# Altium integrated library AD Power Mgt Voltage Reference.IntLib: 225 symbols (part 2 of 5)
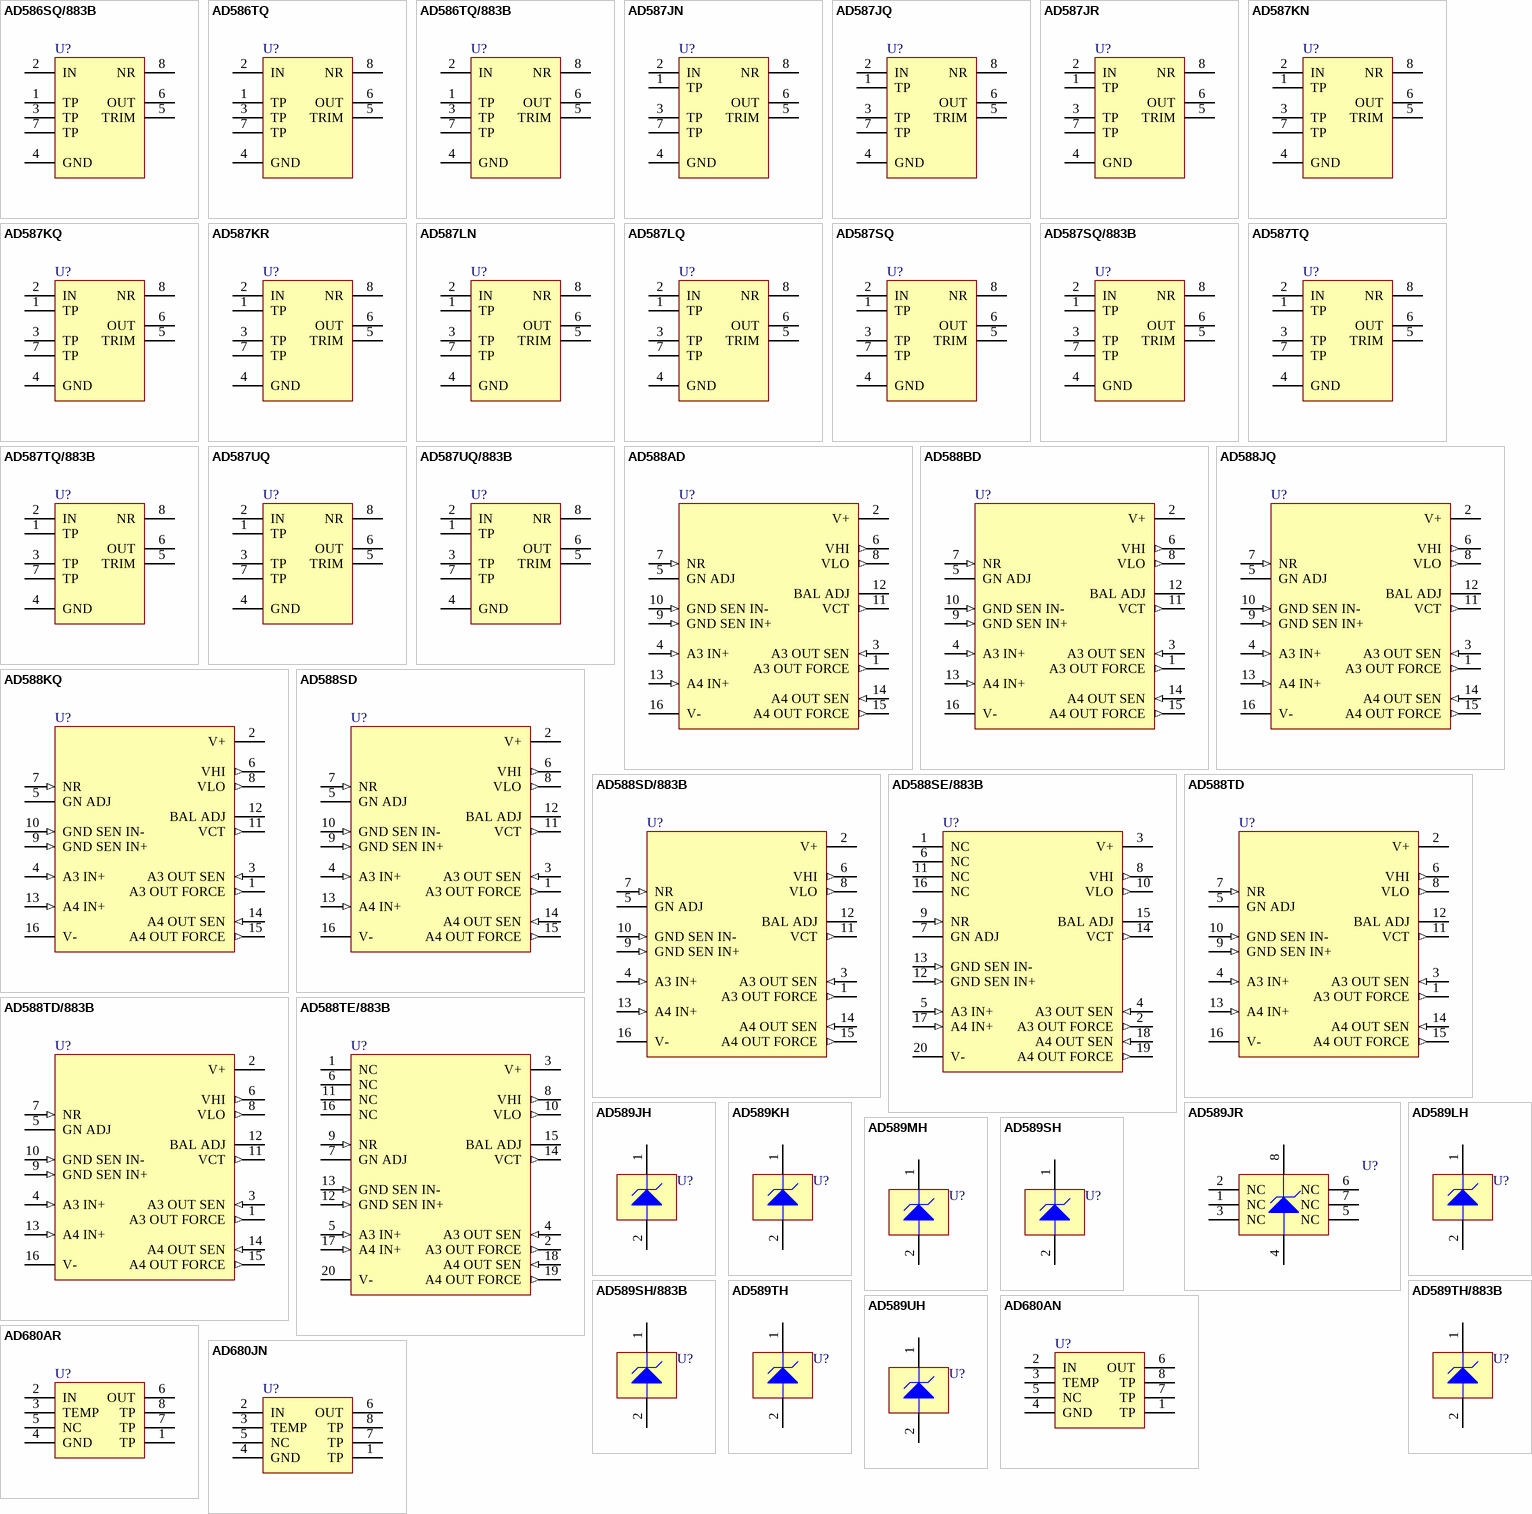
[diagram p6: symbols AD586SQ/883B to AD680JN]

## AD587UQ/883B
designator U?
High-Precision 10 Volt Reference; Note: Pins 1, 3 and 7 are internal test points; make no connection to these points; Published: 8-Jun-2000; LatestRevisionDate: 29-May-2009; LatestRevisionNote: Component Body Added.; DatasheetVersion: REV. C; PackageVersion: 1998; PackageReference: Q-8; Publisher: Altium Limited; PackageDescription: DIP, 8-Pin, Row Spacing 7.62 mm, Pitch 2.54 mm; ComponentLink1Description: Manufacturer Link; ComponentLink1URL: http://www.analog.com/en/prod/0,,769_838_AD587%2C00.html; ComponentLink2Description: Datasheet; ComponentLink2URL: http://www.analog.com/UploadedFiles/Data_Sheets/36724877496502AD587_g.pdf
footprint Q-8 (DIP, 8-Leads, Row Spacing 7.62mm, Pitch 2.54mm, Body 9.91x6.73mm)
3D model Q-8 (DIP, 8-Pin, Row Spacing 7.62 mm, Pitch 2.54 mm)
simulation model AD587U (SUBCKT)
pins: 1 TP, 2 IN (power), 3 TP, 4 GND (power), 5 TRIM, 6 OUT (power), 7 TP, 8 NR

## AD588AD
designator U?
+10V, +5V, ±5V tracking -5V, -10V, High Precision Voltage Reference; Published: 8-Jun-2000; LatestRevisionDate: 29-May-2009; LatestRevisionNote: Component Body Added.; DatasheetVersion: REV. A 1992; PackageReference: D-16; Publisher: Altium Limited; PackageDescription: DIP, 16-Pin, Row Spacing 7.62 mm, Pitch 2.54 mm; ComponentLink1Description: Manufacturer Link; ComponentLink1URL: http://www.analog.com/; ComponentLink2Description: Datasheet; ComponentLink2URL: http://www.analog.com/UploadedFiles/Data_Sheets/33869433321179AD588_d.pdf
footprint D-16 (DIP, 16-Leads, Row Spacing 7.62mm, Pitch 2.54mm, Body 20.07x6.73mm)
3D model D-16 (DIP, 16-Pin, Row Spacing 7.62 mm, Pitch 2.54 mm)
simulation model AD588A (SUBCKT)
pins: 1 A3 OUT FORCE (out), 2 V+ (power), 3 A3 OUT SEN (in), 4 A3 IN+ (in), 5 GN ADJ, 6 VHI (out), 7 NR (in), 8 VLO (out), 9 GND SEN IN+ (in), 10 GND SEN IN- (in), 11 VCT (out), 12 BAL ADJ, 13 A4 IN+ (in), 14 A4 OUT SEN (in), 15 A4 OUT FORCE (out), 16 V- (power)

## AD588BD
designator U?
+10V, +5V, ±5V tracking -5V, -10V, High Precision Voltage Reference; Published: 8-Jun-2000; LatestRevisionDate: 29-May-2009; LatestRevisionNote: Component Body Added.; DatasheetVersion: REV. A 1992; PackageReference: D-16; Publisher: Altium Limited; PackageDescription: DIP, 16-Pin, Row Spacing 7.62 mm, Pitch 2.54 mm; ComponentLink1Description: Manufacturer Link; ComponentLink1URL: http://www.analog.com/; ComponentLink2Description: Datasheet; ComponentLink2URL: http://www.analog.com/UploadedFiles/Data_Sheets/33869433321179AD588_d.pdf
footprint D-16 (DIP, 16-Leads, Row Spacing 7.62mm, Pitch 2.54mm, Body 20.07x6.73mm)
3D model D-16 (DIP, 16-Pin, Row Spacing 7.62 mm, Pitch 2.54 mm)
simulation model AD588B (SUBCKT)
pins: 1 A3 OUT FORCE (out), 2 V+ (power), 3 A3 OUT SEN (in), 4 A3 IN+ (in), 5 GN ADJ, 6 VHI (out), 7 NR (in), 8 VLO (out), 9 GND SEN IN+ (in), 10 GND SEN IN- (in), 11 VCT (out), 12 BAL ADJ, 13 A4 IN+ (in), 14 A4 OUT SEN (in), 15 A4 OUT FORCE (out), 16 V- (power)

## AD588JQ
designator U?
+10V, +5V, ±5V tracking -5V, -10V, High Precision Voltage Reference; Published: 8-Jun-2000; LatestRevisionDate: 29-May-2009; LatestRevisionNote: Component Body Added.; DatasheetVersion: REV. B; PackageVersion: 1996; PackageReference: Q-16; Publisher: Altium Limited; PackageDescription: DIP, 16-Pin, Row Spacing 7.62 mm, Pitch 2.54 mm; ComponentLink1Description: Manufacturer Link; ComponentLink1URL: http://www.analog.com/en/prod/0%2C2877%2CAD588%2C00.html; ComponentLink2Description: Datasheet; ComponentLink2URL: http://www.analog.com/UploadedFiles/Data_Sheets/33869433321179AD588_d.pdf
footprint Q-16 (DIP, 16-Leads, Row Spacing 7.62mm, Pitch 2.54mm, Body 20.07x6.73mm)
3D model D-16 (DIP, 16-Pin, Row Spacing 7.62 mm, Pitch 2.54 mm)
simulation model AD588J (SUBCKT)
pins: 1 A3 OUT FORCE (out), 2 V+ (power), 3 A3 OUT SEN (in), 4 A3 IN+ (in), 5 GN ADJ, 6 VHI (out), 7 NR (in), 8 VLO (out), 9 GND SEN IN+ (in), 10 GND SEN IN- (in), 11 VCT (out), 12 BAL ADJ, 13 A4 IN+ (in), 14 A4 OUT SEN (in), 15 A4 OUT FORCE (out), 16 V- (power)

## AD588KQ
designator U?
+10V, +5V, ±5V tracking -5V, -10V, High Precision Voltage Reference; Published: 8-Jun-2000; LatestRevisionDate: 29-May-2009; LatestRevisionNote: Component Body Added.; DatasheetVersion: REV. B; PackageVersion: 1996; PackageReference: Q-16; Publisher: Altium Limited; PackageDescription: DIP, 16-Pin, Row Spacing 7.62 mm, Pitch 2.54 mm; ComponentLink1Description: Manufacturer Link; ComponentLink1URL: http://www.analog.com/en/prod/0%2C2877%2CAD588%2C00.html; ComponentLink2Description: Datasheet; ComponentLink2URL: http://www.analog.com/UploadedFiles/Data_Sheets/33869433321179AD588_d.pdf
footprint Q-16 (DIP, 16-Leads, Row Spacing 7.62mm, Pitch 2.54mm, Body 20.07x6.73mm)
3D model D-16 (DIP, 16-Pin, Row Spacing 7.62 mm, Pitch 2.54 mm)
simulation model AD588K (SUBCKT)
pins: 1 A3 OUT FORCE (out), 2 V+ (power), 3 A3 OUT SEN (in), 4 A3 IN+ (in), 5 GN ADJ, 6 VHI (out), 7 NR (in), 8 VLO (out), 9 GND SEN IN+ (in), 10 GND SEN IN- (in), 11 VCT (out), 12 BAL ADJ, 13 A4 IN+ (in), 14 A4 OUT SEN (in), 15 A4 OUT FORCE (out), 16 V- (power)

## AD588SD
designator U?
+10V, +5V, ±5V tracking -5V, -10V, High Precision Voltage Reference; Published: 8-Jun-2000; LatestRevisionDate: 29-May-2009; LatestRevisionNote: Component Body Added.; DatasheetVersion: REV. B 1993; PackageVersion: 1993; PackageReference: D-16_A; Publisher: Altium Limited; PackageDescription: DIP, 16-Pin, Row Spacing 7.62 mm, Pitch 2.54 mm; ComponentLink1Description: Manufacturer Link; ComponentLink1URL: http://www.analog.com/; ComponentLink2Description: Datasheet; ComponentLink2URL: http://www.analog.com/UploadedFiles/Data_Sheets/33869433321179AD588_d.pdf
footprint D-16_A (DIP, 16-Leads, Row Spacing 7.62mm, Pitch 2.54mm, Body 20.07x6.73mm)
3D model D-16A (DIP, 16-Pin, Row Spacing 7.62 mm, Pitch 2.54 mm)
simulation model AD588S (SUBCKT)
pins: 1 A3 OUT FORCE (out), 2 V+ (power), 3 A3 OUT SEN (in), 4 A3 IN+ (in), 5 GN ADJ, 6 VHI (out), 7 NR (in), 8 VLO (out), 9 GND SEN IN+ (in), 10 GND SEN IN- (in), 11 VCT (out), 12 BAL ADJ, 13 A4 IN+ (in), 14 A4 OUT SEN (in), 15 A4 OUT FORCE (out), 16 V- (power)

## AD588SD/883B
designator U?
+10V, +5V, ±5V tracking -5V, -10V, High Precision Voltage Reference; Published: 8-Jun-2000; LatestRevisionDate: 29-May-2009; LatestRevisionNote: Component Body Added.; DatasheetVersion: REV. B 1993; PackageVersion: 1993; PackageReference: D-16_A; Publisher: Altium Limited; PackageDescription: DIP, 16-Pin, Row Spacing 7.62 mm, Pitch 2.54 mm; ComponentLink1Description: Manufacturer Link; ComponentLink1URL: http://www.analog.com/; ComponentLink2Description: Datasheet; ComponentLink2URL: http://www.analog.com/UploadedFiles/Data_Sheets/33869433321179AD588_d.pdf
footprint D-16_A (DIP, 16-Leads, Row Spacing 7.62mm, Pitch 2.54mm, Body 20.07x6.73mm)
3D model D-16A (DIP, 16-Pin, Row Spacing 7.62 mm, Pitch 2.54 mm)
simulation model AD588S (SUBCKT)
pins: 1 A3 OUT FORCE (out), 2 V+ (power), 3 A3 OUT SEN (in), 4 A3 IN+ (in), 5 GN ADJ, 6 VHI (out), 7 NR (in), 8 VLO (out), 9 GND SEN IN+ (in), 10 GND SEN IN- (in), 11 VCT (out), 12 BAL ADJ, 13 A4 IN+ (in), 14 A4 OUT SEN (in), 15 A4 OUT FORCE (out), 16 V- (power)

## AD588SE/883B
designator U?
+10V, +5V, ±5V tracking -5V, -10V, High Precision Voltage Reference; Note: Pins 1, 6, 11 and 16 are not connected; Published: 8-Jun-2000; LatestRevisionDate: 29-May-2009; LatestRevisionNote: IPC-7351 Footprint Added.; DatasheetVersion: REV. B 1993; PackageReference: E-20A; Publisher: Altium Limited; PackageDescription: 20-Pin Ceramic Leadless Chip Carrier 1.27 mm Pitch; ComponentLink1Description: Manufacturer Link; ComponentLink1URL: http://www.analog.com/; ComponentLink2Description: Datasheet; ComponentLink2URL: http://www.analog.com/UploadedFiles/Data_Sheets/33869433321179AD588_d.pdf
footprint E-20A_N (Leadless Chip Carrier, 20-Leads, Body 8.9x8.9mm, Pitch 1.27mm, IPC Medium Density)
footprint E-20A_L (Leadless Chip Carrier, 20-Leads, Body 8.9x8.9mm, Pitch 1.27mm, IPC High Density)
footprint E-20A_M (Leadless Chip Carrier, 20-Leads, Body 8.9x8.9mm, Pitch 1.27mm, IPC Low Density)
simulation model AD588S (SUBCKT)
pins: 1 NC, 2 A3 OUT FORCE (out), 3 V+ (power), 4 A3 OUT SEN (in), 5 A3 IN+ (in), 6 NC, 7 GN ADJ, 8 VHI (out), 9 NR (in), 10 VLO (out), 11 NC, 12 GND SEN IN+ (in), 13 GND SEN IN- (in), 14 VCT (out), 15 BAL ADJ, 16 NC, 17 A4 IN+ (in), 18 A4 OUT SEN (in), 19 A4 OUT FORCE (out), 20 V- (power)

## AD588TD
designator U?
+10V, +5V, ±5V tracking -5V, -10V, High Precision Voltage Reference; Published: 8-Jun-2000; LatestRevisionDate: 29-May-2009; LatestRevisionNote: Component Body Added.; DatasheetVersion: REV. B 1993; PackageVersion: 1993; PackageReference: D-16_A; Publisher: Altium Limited; PackageDescription: DIP, 16-Pin, Row Spacing 7.62 mm, Pitch 2.54 mm; ComponentLink1Description: Manufacturer Link; ComponentLink1URL: http://www.analog.com/; ComponentLink2Description: Datasheet; ComponentLink2URL: http://www.analog.com/UploadedFiles/Data_Sheets/33869433321179AD588_d.pdf
footprint D-16_A (DIP, 16-Leads, Row Spacing 7.62mm, Pitch 2.54mm, Body 20.07x6.73mm)
3D model D-16A (DIP, 16-Pin, Row Spacing 7.62 mm, Pitch 2.54 mm)
simulation model AD588T (SUBCKT)
pins: 1 A3 OUT FORCE (out), 2 V+ (power), 3 A3 OUT SEN (in), 4 A3 IN+ (in), 5 GN ADJ, 6 VHI (out), 7 NR (in), 8 VLO (out), 9 GND SEN IN+ (in), 10 GND SEN IN- (in), 11 VCT (out), 12 BAL ADJ, 13 A4 IN+ (in), 14 A4 OUT SEN (in), 15 A4 OUT FORCE (out), 16 V- (power)

## AD588TD/883B
designator U?
+10V, +5V, ±5V tracking -5V, -10V, High Precision Voltage Reference; Published: 8-Jun-2000; LatestRevisionDate: 29-May-2009; LatestRevisionNote: Component Body Added.; DatasheetVersion: REV. B 1993; PackageVersion: 1993; PackageReference: D-16_A; Publisher: Altium Limited; PackageDescription: DIP, 16-Pin, Row Spacing 7.62 mm, Pitch 2.54 mm; ComponentLink1Description: Manufacturer Link; ComponentLink1URL: http://www.analog.com/; ComponentLink2Description: Datasheet; ComponentLink2URL: http://www.analog.com/UploadedFiles/Data_Sheets/33869433321179AD588_d.pdf
footprint D-16_A (DIP, 16-Leads, Row Spacing 7.62mm, Pitch 2.54mm, Body 20.07x6.73mm)
3D model D-16A (DIP, 16-Pin, Row Spacing 7.62 mm, Pitch 2.54 mm)
simulation model AD588T (SUBCKT)
pins: 1 A3 OUT FORCE (out), 2 V+ (power), 3 A3 OUT SEN (in), 4 A3 IN+ (in), 5 GN ADJ, 6 VHI (out), 7 NR (in), 8 VLO (out), 9 GND SEN IN+ (in), 10 GND SEN IN- (in), 11 VCT (out), 12 BAL ADJ, 13 A4 IN+ (in), 14 A4 OUT SEN (in), 15 A4 OUT FORCE (out), 16 V- (power)

## AD588TE/883B
designator U?
+10V, +5V, ±5V tracking -5V, -10V, High Precision Voltage Reference; Note: Pins 1, 6, 11 and 16 are not connected; Published: 8-Jun-2000; LatestRevisionDate: 29-May-2009; LatestRevisionNote: IPC-7351 Footprint Added.; DatasheetVersion: REV. B 1993; PackageReference: E-20A; Publisher: Altium Limited; PackageDescription: 20-Pin Ceramic Leadless Chip Carrier 1.27 mm Pitch; ComponentLink1Description: Manufacturer Link; ComponentLink1URL: http://www.analog.com/; ComponentLink2Description: Datasheet; ComponentLink2URL: http://www.analog.com/UploadedFiles/Data_Sheets/33869433321179AD588_d.pdf
footprint E-20A_N (Leadless Chip Carrier, 20-Leads, Body 8.9x8.9mm, Pitch 1.27mm, IPC Medium Density)
footprint E-20A_L (Leadless Chip Carrier, 20-Leads, Body 8.9x8.9mm, Pitch 1.27mm, IPC High Density)
footprint E-20A_M (Leadless Chip Carrier, 20-Leads, Body 8.9x8.9mm, Pitch 1.27mm, IPC Low Density)
simulation model AD588T (SUBCKT)
pins: 1 NC, 2 A3 OUT FORCE (out), 3 V+ (power), 4 A3 OUT SEN (in), 5 A3 IN+ (in), 6 NC, 7 GN ADJ, 8 VHI (out), 9 NR (in), 10 VLO (out), 11 NC, 12 GND SEN IN+ (in), 13 GND SEN IN- (in), 14 VCT (out), 15 BAL ADJ, 16 NC, 17 A4 IN+ (in), 18 A4 OUT SEN (in), 19 A4 OUT FORCE (out), 20 V- (power)

## AD589JH
designator U?
Two-Terminal IC 1.2 V Shunt Reference; Published: 8-Jun-2000; LatestRevisionDate: 17-Jul-2002; LatestRevisionNote: Re-released for DXP Platform.; DatasheetVersion: REV. B; PackageVersion: revB; PackageReference: H-02A; Publisher: Altium Limited; PackageDescription: Can; 2 Leads; Pin Circle Dia. 2.54 mm; Lead Dia. 0.48 mm (max); ComponentLink1Description: Manufacturer Link; ComponentLink1URL: http://www.analog.com/en/prod/0,,769_838_AD589%2C00.html; ComponentLink2Description: Datasheet; ComponentLink2URL: http://www.analog.com/UploadedFiles/Data_Sheets/30595452452071AD589_c.pdf
footprint H-02A (Can; 2 Leads; Pin Circle Dia. 2.54 mm; Lead Dia. 0.48 mm (max))
pins: 1 V+ (power), 2 V- (power)

## AD589JR
designator U?
Two-Terminal IC 1.2 V Shunt Reference; Note: Pins 1, 2, 3, 5, 6 and 7 are not connected; Published: 8-Jun-2000; LatestRevisionDate: 13-Apr-2006; LatestRevisionNote: IPC-7351 Footprint Added.; DatasheetVersion: REV. B; PackageVersion: 1993; PackageReference: R-8G; Publisher: Altium Limited; PackageDescription: 8-Pin Small Outline Integrated Circuit 1.27 mm Pitch; ComponentLink1Description: Manufacturer Link; ComponentLink1URL: http://www.analog.com/en/prod/0,,769_838_AD589%2C00.html; ComponentLink2Description: Datasheet; ComponentLink2URL: http://www.analog.com/UploadedFiles/Data_Sheets/30595452452071AD589_c.pdf
footprint R-8G_N (SOIC, 8-Leads, Body 4.9x3.9mm, Pitch 1.27mm, IPC Medium Density)
footprint R-8G_L (SOIC, 8-Leads, Body 4.9x3.9mm, Pitch 1.27mm, IPC High Density)
footprint R-8G_M (SOIC, 8-Leads, Body 4.9x3.9mm, Pitch 1.27mm, IPC Low Density)
3D model R-8G (8-Pin Small Outline Integrated Circuit 1.27 mm Pitch)
pins: 1 NC, 2 NC, 3 NC, 4 V- (power), 5 NC, 6 NC, 7 NC, 8 V+ (power)

## AD589KH
designator U?
Two-Terminal IC 1.2 V Shunt Reference; Published: 8-Jun-2000; LatestRevisionDate: 17-Jul-2002; LatestRevisionNote: Re-released for DXP Platform.; DatasheetVersion: REV. B; PackageVersion: revB; PackageReference: H-02A; Publisher: Altium Limited; PackageDescription: Can; 2 Leads; Pin Circle Dia. 2.54 mm; Lead Dia. 0.48 mm (max); ComponentLink1Description: Manufacturer Link; ComponentLink1URL: http://www.analog.com/en/prod/0,,769_838_AD589%2C00.html; ComponentLink2Description: Datasheet; ComponentLink2URL: http://www.analog.com/UploadedFiles/Data_Sheets/30595452452071AD589_c.pdf
footprint H-02A (Can; 2 Leads; Pin Circle Dia. 2.54 mm; Lead Dia. 0.48 mm (max))
pins: 1 V+ (power), 2 V- (power)

## AD589LH
designator U?
Two-Terminal IC 1.2 V Shunt Reference; Published: 8-Jun-2000; LatestRevisionDate: 17-Jul-2002; LatestRevisionNote: Re-released for DXP Platform.; DatasheetVersion: REV. B; PackageVersion: revB; PackageReference: H-02A; Publisher: Altium Limited; PackageDescription: Can; 2 Leads; Pin Circle Dia. 2.54 mm; Lead Dia. 0.48 mm (max); ComponentLink1Description: Manufacturer Link; ComponentLink1URL: http://www.analog.com/en/prod/0,,769_838_AD589%2C00.html; ComponentLink2Description: Datasheet; ComponentLink2URL: http://www.analog.com/UploadedFiles/Data_Sheets/30595452452071AD589_c.pdf
footprint H-02A (Can; 2 Leads; Pin Circle Dia. 2.54 mm; Lead Dia. 0.48 mm (max))
pins: 1 V+ (power), 2 V- (power)

## AD589MH
designator U?
Two-Terminal IC 1.2 V Shunt Reference; Published: 8-Jun-2000; LatestRevisionDate: 17-Jul-2002; LatestRevisionNote: Re-released for DXP Platform.; DatasheetVersion: REV. B; PackageVersion: revB; PackageReference: H-02A; Publisher: Altium Limited; PackageDescription: Can; 2 Leads; Pin Circle Dia. 2.54 mm; Lead Dia. 0.48 mm (max); ComponentLink1Description: Manufacturer Link; ComponentLink1URL: http://www.analog.com/en/prod/0,,769_838_AD589%2C00.html; ComponentLink2Description: Datasheet; ComponentLink2URL: http://www.analog.com/UploadedFiles/Data_Sheets/30595452452071AD589_c.pdf
footprint H-02A (Can; 2 Leads; Pin Circle Dia. 2.54 mm; Lead Dia. 0.48 mm (max))
pins: 1 V+ (power), 2 V- (power)

## AD589SH
designator U?
Two-Terminal IC 1.2 V Shunt Reference; Published: 8-Jun-2000; LatestRevisionDate: 17-Jul-2002; LatestRevisionNote: Re-released for DXP Platform.; DatasheetVersion: REV. B; PackageVersion: revB; PackageReference: H-02A; Publisher: Altium Limited; PackageDescription: Can; 2 Leads; Pin Circle Dia. 2.54 mm; Lead Dia. 0.48 mm (max); ComponentLink1Description: Manufacturer Link; ComponentLink1URL: http://www.analog.com/en/prod/0,,769_838_AD589%2C00.html; ComponentLink2Description: Datasheet; ComponentLink2URL: http://www.analog.com/UploadedFiles/Data_Sheets/30595452452071AD589_c.pdf
footprint H-02A (Can; 2 Leads; Pin Circle Dia. 2.54 mm; Lead Dia. 0.48 mm (max))
pins: 1 V+ (power), 2 V- (power)

## AD589SH/883B
designator U?
Two-Terminal IC 1.2 V Shunt Reference; Published: 8-Jun-2000; LatestRevisionDate: 17-Jul-2002; LatestRevisionNote: Re-released for DXP Platform.; DatasheetVersion: REV. B; PackageVersion: revB; PackageReference: H-02A; Publisher: Altium Limited; PackageDescription: Can; 2 Leads; Pin Circle Dia. 2.54 mm; Lead Dia. 0.48 mm (max); ComponentLink1Description: Manufacturer Link; ComponentLink1URL: http://www.analog.com/en/prod/0,,769_838_AD589%2C00.html; ComponentLink2Description: Datasheet; ComponentLink2URL: http://www.analog.com/UploadedFiles/Data_Sheets/30595452452071AD589_c.pdf
footprint H-02A (Can; 2 Leads; Pin Circle Dia. 2.54 mm; Lead Dia. 0.48 mm (max))
pins: 1 V+ (power), 2 V- (power)

## AD589TH
designator U?
Two-Terminal IC 1.2 V Shunt Reference; Published: 8-Jun-2000; LatestRevisionDate: 17-Jul-2002; LatestRevisionNote: Re-released for DXP Platform.; DatasheetVersion: REV. B; PackageVersion: revB; PackageReference: H-02A; Publisher: Altium Limited; PackageDescription: Can; 2 Leads; Pin Circle Dia. 2.54 mm; Lead Dia. 0.48 mm (max); ComponentLink1Description: Manufacturer Link; ComponentLink1URL: http://www.analog.com/en/prod/0,,769_838_AD589%2C00.html; ComponentLink2Description: Datasheet; ComponentLink2URL: http://www.analog.com/UploadedFiles/Data_Sheets/30595452452071AD589_c.pdf
footprint H-02A (Can; 2 Leads; Pin Circle Dia. 2.54 mm; Lead Dia. 0.48 mm (max))
pins: 1 V+ (power), 2 V- (power)

## AD589TH/883B
designator U?
Two-Terminal IC 1.2 V Shunt Reference; Published: 8-Jun-2000; LatestRevisionDate: 17-Jul-2002; LatestRevisionNote: Re-released for DXP Platform.; DatasheetVersion: REV. B; PackageVersion: revB; PackageReference: H-02A; Publisher: Altium Limited; PackageDescription: Can; 2 Leads; Pin Circle Dia. 2.54 mm; Lead Dia. 0.48 mm (max); ComponentLink1Description: Manufacturer Link; ComponentLink1URL: http://www.analog.com/en/prod/0,,769_838_AD589%2C00.html; ComponentLink2Description: Datasheet; ComponentLink2URL: http://www.analog.com/UploadedFiles/Data_Sheets/30595452452071AD589_c.pdf
footprint H-02A (Can; 2 Leads; Pin Circle Dia. 2.54 mm; Lead Dia. 0.48 mm (max))
pins: 1 V+ (power), 2 V- (power)

## AD589UH
designator U?
Two-Terminal IC 1.2 V Shunt Reference; Published: 8-Jun-2000; LatestRevisionDate: 17-Jul-2002; LatestRevisionNote: Re-released for DXP Platform.; DatasheetVersion: REV. B; PackageVersion: revB; PackageReference: H-02A; Publisher: Altium Limited; PackageDescription: Can; 2 Leads; Pin Circle Dia. 2.54 mm; Lead Dia. 0.48 mm (max); ComponentLink1Description: Manufacturer Link; ComponentLink1URL: http://www.analog.com/en/prod/0,,769_838_AD589%2C00.html; ComponentLink2Description: Datasheet; ComponentLink2URL: http://www.analog.com/UploadedFiles/Data_Sheets/30595452452071AD589_c.pdf
footprint H-02A (Can; 2 Leads; Pin Circle Dia. 2.54 mm; Lead Dia. 0.48 mm (max))
pins: 1 V+ (power), 2 V- (power)

## AD680AN
designator U?
Low-Power, Low-Cost 2.5V Bandgap Voltage Reference; Note: Pins 1, 7 and 8 are factory test points; make no connection to these pins; Pin 5 is not connected; Published: 8-Jun-2000; LatestRevisionDate: 29-May-2009; LatestRevisionNote: Component Body Added.; DatasheetVersion: REV. C; PackageReference: N-8_A; Publisher: Altium Limited; PackageDescription: DIP, 8-Pin, Row Spacing 7.62 mm, Pitch 2.54 mm; Code_JEDEC: MO-001-AN; ComponentLink1Description: Manufacturer Link; ComponentLink1URL: http://www.analog.com/en/prod/0%2C2877%2CAD680%2C00.html; ComponentLink2Description: Datasheet; ComponentLink2URL: http://www.analog.com/UploadedFiles/Data_Sheets/16289565AD680_g.pdf
footprint N-8_A (DIP, 8-Leads, Row Spacing 7.62mm, Pitch 2.54mm, Body 9.88x6.61mm)
3D model N-8A (DIP, 8-Pin, Row Spacing 7.62 mm, Pitch 2.54 mm)
simulation model AD680A (SUBCKT)
pins: 1 TP, 2 IN (power), 3 TEMP, 4 GND (power), 5 NC, 6 OUT (power), 7 TP, 8 TP

## AD680AR
designator U?
Low-Power, Low-Cost 2.5V Bandgap Voltage Reference; Note: Pins 1, 7 and 8 are factory test points; make no connection to these pins; Pin 5 is not connected; Published: 8-Jun-2000; LatestRevisionDate: 13-Apr-2006; LatestRevisionNote: IPC-7351 Footprint Added.; DatasheetVersion: REV. C; PackageVersion: revC; PackageReference: SO-8C; Publisher: Altium Limited; PackageDescription: 8-Pin Small Outline Integrated Circuit 1.27 mm Pitch; Code_IPC: SOIC127P600-8; ComponentLink1Description: Manufacturer Link; ComponentLink1URL: http://www.analog.com/en/prod/0%2C2877%2CAD680%2C00.html; ComponentLink2Description: Datasheet; ComponentLink2URL: http://www.analog.com/UploadedFiles/Data_Sheets/16289565AD680_g.pdf
footprint SO-8C_N (SOIC, 8-Leads, Body 4.9x3.9mm, Pitch 1.27mm, IPC Medium Density)
footprint SO-8C_L (SOIC, 8-Leads, Body 4.9x3.9mm, Pitch 1.27mm, IPC High Density)
footprint SO-8C_M (SOIC, 8-Leads, Body 4.9x3.9mm, Pitch 1.27mm, IPC Low Density)
3D model SO-8C (8-Pin Small Outline Integrated Circuit 1.27 mm Pitch)
simulation model AD680A (SUBCKT)
pins: 1 TP, 2 IN (power), 3 TEMP, 4 GND (power), 5 NC, 6 OUT (power), 7 TP, 8 TP

## AD680JN
designator U?
Low-Power, Low-Cost 2.5V Bandgap Voltage Reference; Note: Pins 1, 7 and 8 are factory test points; make no connection to these pins; Pin 5 is not connected; Published: 8-Jun-2000; LatestRevisionDate: 29-May-2009; LatestRevisionNote: Component Body Added.; DatasheetVersion: REV. C; PackageReference: N-8_A; Publisher: Altium Limited; PackageDescription: DIP, 8-Pin, Row Spacing 7.62 mm, Pitch 2.54 mm; Code_JEDEC: MO-001-AN; ComponentLink1Description: Manufacturer Link; ComponentLink1URL: http://www.analog.com/en/prod/0%2C2877%2CAD680%2C00.html; ComponentLink2Description: Datasheet; ComponentLink2URL: http://www.analog.com/UploadedFiles/Data_Sheets/16289565AD680_g.pdf
footprint N-8_A (DIP, 8-Leads, Row Spacing 7.62mm, Pitch 2.54mm, Body 9.88x6.61mm)
3D model N-8A (DIP, 8-Pin, Row Spacing 7.62 mm, Pitch 2.54 mm)
simulation model AD680J (SUBCKT)
pins: 1 TP, 2 IN (power), 3 TEMP, 4 GND (power), 5 NC, 6 OUT (power), 7 TP, 8 TP

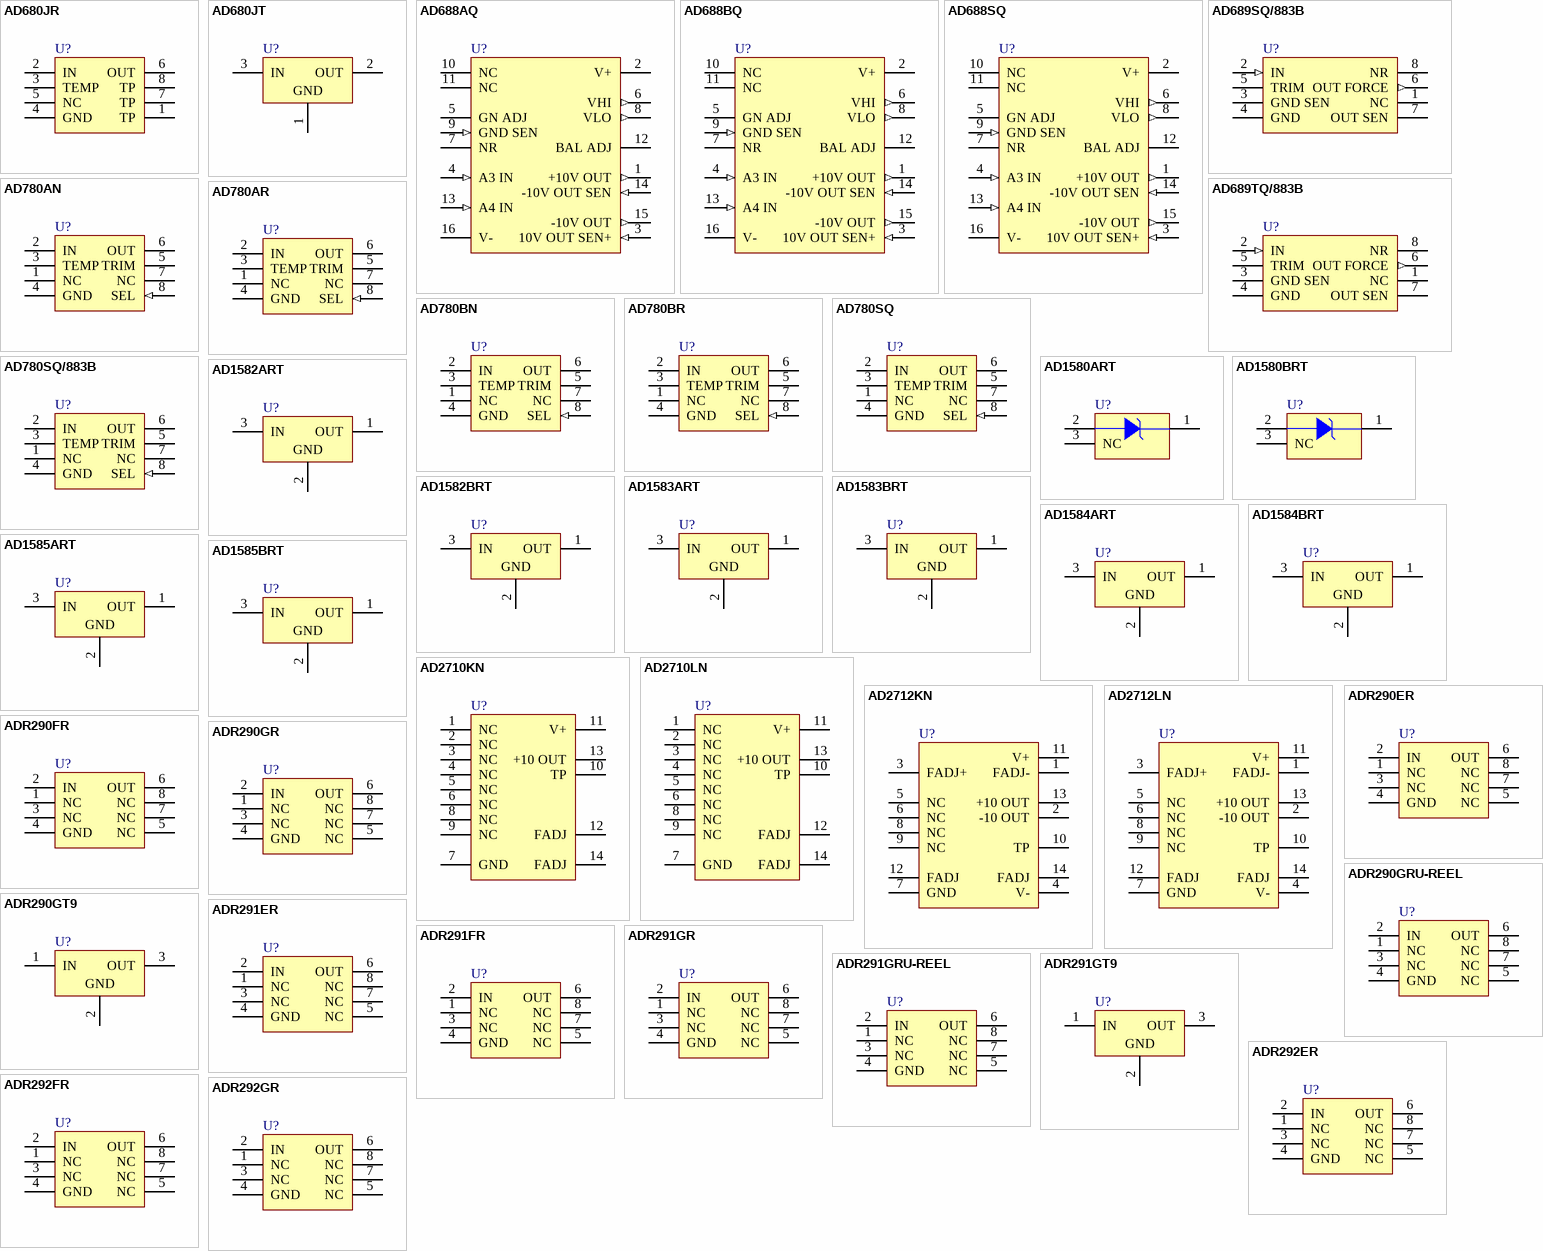
[diagram p2: symbols AD680JR to ADR292GR]

## AD680JR
designator U?
Low-Power, Low-Cost 2.5V Bandgap Voltage Reference; Note: Pins 1, 7 and 8 are factory test points; make no connection to these pins; Pin 5 is not connected; Published: 8-Jun-2000; LatestRevisionDate: 13-Apr-2006; LatestRevisionNote: IPC-7351 Footprint Added.; DatasheetVersion: REV. C; PackageVersion: revC; PackageReference: SO-8C; Publisher: Altium Limited; PackageDescription: 8-Pin Small Outline Integrated Circuit 1.27 mm Pitch; Code_IPC: SOIC127P600-8; ComponentLink1Description: Manufacturer Link; ComponentLink1URL: http://www.analog.com/en/prod/0%2C2877%2CAD680%2C00.html; ComponentLink2Description: Datasheet; ComponentLink2URL: http://www.analog.com/UploadedFiles/Data_Sheets/16289565AD680_g.pdf
footprint SO-8C_N (SOIC, 8-Leads, Body 4.9x3.9mm, Pitch 1.27mm, IPC Medium Density)
footprint SO-8C_L (SOIC, 8-Leads, Body 4.9x3.9mm, Pitch 1.27mm, IPC High Density)
footprint SO-8C_M (SOIC, 8-Leads, Body 4.9x3.9mm, Pitch 1.27mm, IPC Low Density)
3D model SO-8C (8-Pin Small Outline Integrated Circuit 1.27 mm Pitch)
simulation model AD680J (SUBCKT)
pins: 1 TP, 2 IN (power), 3 TEMP, 4 GND (power), 5 NC, 6 OUT (power), 7 TP, 8 TP

## AD680JT
designator U?
Low-Power, Low-Cost 2.5V Bandgap Voltage Reference; Published: 8-Jun-2000; LatestRevisionDate: 17-Jul-2002; LatestRevisionNote: Re-released for DXP Platform.; DatasheetVersion: REV. C; PackageVersion: revC; PackageReference: TO-92; Publisher: Altium Limited; PackageDescription: TO, Flat Index; 3 In-Line, Axial Leads; Body Dia. 5.1mm; Leads 0.48 x 0.48 mm (max); ComponentLink1Description: Manufacturer Link; ComponentLink1URL: http://www.analog.com/en/prod/0%2C2877%2CAD680%2C00.html; ComponentLink2Description: Datasheet; ComponentLink2URL: http://www.analog.com/UploadedFiles/Data_Sheets/16289565AD680_g.pdf
footprint TO-92 (TO, Flat Index; 3 In-Line, Axial Leads; Body Dia. 5.1mm; Leads 0.48 x 0.48 mm (max))
simulation model AD680JT (SUBCKT)
pins: 1 GND (power), 2 OUT (power), 3 IN (power)

## AD688AQ
designator U?
High-Precision +/- 10V Reference; Note: Pins 10 and 11 are not connected; NC Pins are used as test points by the factory.  To ensure proper operation, Do not connect anything to these pins; Published: 8-Jun-2000; LatestRevisionDate: 29-May-2009; LatestRevisionNote: Component Body Added.; DatasheetVersion: REV. A; PackageVersion: revA; PackageReference: Q-16_A; Publisher: Altium Limited; PackageDescription: DIP, 16-Pin, Row Spacing 7.62 mm, Pitch 2.54 mm; ComponentLink1Description: Manufacturer Link; ComponentLink1URL: http://www.analog.com/en/prod/0,,769_838_AD688%2C00.html; ComponentLink2Description: Datasheet; ComponentLink2URL: http://www.analog.com/UploadedFiles/Data_Sheets/20172807AD688_b.pdf
footprint Q-16_A (DIP, 16-Leads, Row Spacing 7.62mm, Pitch 2.54mm, Body 19.81x6.49mm)
3D model Q-16A (DIP, 16-Pin, Row Spacing 7.62 mm, Pitch 2.54 mm)
pins: 1 +10V OUT (out), 2 V+ (power), 3 10V OUT SEN+ (in), 4 A3 IN (in), 5 GN ADJ, 6 VHI (out), 7 NR, 8 VLO (out), 9 GND SEN (in), 10 NC, 11 NC, 12 BAL ADJ, 13 A4 IN (in), 14 -10V OUT SEN (in), 15 -10V OUT (out), 16 V- (power)

## AD688BQ
designator U?
High-Precision +/- 10V Reference; Note: Pins 10 and 11 are not connected; NC Pins are used as test points by the factory.  To ensure proper operation, Do not connect anything to these pins; Published: 8-Jun-2000; LatestRevisionDate: 29-May-2009; LatestRevisionNote: Component Body Added.; DatasheetVersion: REV. A; PackageVersion: revA; PackageReference: Q-16_A; Publisher: Altium Limited; PackageDescription: DIP, 16-Pin, Row Spacing 7.62 mm, Pitch 2.54 mm; ComponentLink1Description: Manufacturer Link; ComponentLink1URL: http://www.analog.com/en/prod/0,,769_838_AD688%2C00.html; ComponentLink2Description: Datasheet; ComponentLink2URL: http://www.analog.com/UploadedFiles/Data_Sheets/20172807AD688_b.pdf
footprint Q-16_A (DIP, 16-Leads, Row Spacing 7.62mm, Pitch 2.54mm, Body 19.81x6.49mm)
3D model Q-16A (DIP, 16-Pin, Row Spacing 7.62 mm, Pitch 2.54 mm)
pins: 1 +10V OUT (out), 2 V+ (power), 3 10V OUT SEN+ (in), 4 A3 IN (in), 5 GN ADJ, 6 VHI (out), 7 NR, 8 VLO (out), 9 GND SEN (in), 10 NC, 11 NC, 12 BAL ADJ, 13 A4 IN (in), 14 -10V OUT SEN (in), 15 -10V OUT (out), 16 V- (power)

## AD688SQ
designator U?
High-Precision +/- 10V Reference; Note: Pins 10 and 11 are not connected; NC Pins are used as test points by the factory.  To ensure proper operation, Do not connect anything to these pins; Published: 8-Jun-2000; LatestRevisionDate: 29-May-2009; LatestRevisionNote: Component Body Added.; DatasheetVersion: REV. A; PackageVersion: revA; PackageReference: Q-16_A; Publisher: Altium Limited; PackageDescription: DIP, 16-Pin, Row Spacing 7.62 mm, Pitch 2.54 mm; ComponentLink1Description: Manufacturer Link; ComponentLink1URL: http://www.analog.com/en/prod/0,,769_838_AD688%2C00.html; ComponentLink2Description: Datasheet; ComponentLink2URL: http://www.analog.com/UploadedFiles/Data_Sheets/20172807AD688_b.pdf
footprint Q-16_A (DIP, 16-Leads, Row Spacing 7.62mm, Pitch 2.54mm, Body 19.81x6.49mm)
3D model Q-16A (DIP, 16-Pin, Row Spacing 7.62 mm, Pitch 2.54 mm)
pins: 1 +10V OUT (out), 2 V+ (power), 3 10V OUT SEN+ (in), 4 A3 IN (in), 5 GN ADJ, 6 VHI (out), 7 NR, 8 VLO (out), 9 GND SEN (in), 10 NC, 11 NC, 12 BAL ADJ, 13 A4 IN (in), 14 -10V OUT SEN (in), 15 -10V OUT (out), 16 V- (power)

## AD689SQ/883B
designator U?
High Precision 8.192 Volt Reference; Note: Pin 1 is not connected; Published: 8-Jun-2000; LatestRevisionDate: 29-May-2009; LatestRevisionNote: Component Body Added.; DatasheetVersion: 1989; PackageVersion: 1998; PackageReference: Q-8; Publisher: Altium Limited; PackageDescription: DIP, 8-Pin, Row Spacing 7.62 mm, Pitch 2.54 mm; ComponentLink1Description: Manufacturer Link; ComponentLink1URL: http://www.analog.com/
footprint Q-8 (DIP, 8-Leads, Row Spacing 7.62mm, Pitch 2.54mm, Body 9.91x6.73mm)
3D model Q-8 (DIP, 8-Pin, Row Spacing 7.62 mm, Pitch 2.54 mm)
pins: 1 NC, 2 IN (in), 3 GND SEN, 4 GND (power), 5 TRIM, 6 OUT FORCE (out), 7 OUT SEN, 8 NR

## AD689TQ/883B
designator U?
High Precision 8.192 Volt Reference; Note: Pin 1 is not connected; Published: 8-Jun-2000; LatestRevisionDate: 29-May-2009; LatestRevisionNote: Component Body Added.; DatasheetVersion: 1989; PackageVersion: 1998; PackageReference: Q-8; Publisher: Altium Limited; PackageDescription: DIP, 8-Pin, Row Spacing 7.62 mm, Pitch 2.54 mm; ComponentLink1Description: Manufacturer Link; ComponentLink1URL: http://www.analog.com/
footprint Q-8 (DIP, 8-Leads, Row Spacing 7.62mm, Pitch 2.54mm, Body 9.91x6.73mm)
3D model Q-8 (DIP, 8-Pin, Row Spacing 7.62 mm, Pitch 2.54 mm)
pins: 1 NC, 2 IN (in), 3 GND SEN, 4 GND (power), 5 TRIM, 6 OUT FORCE (out), 7 OUT SEN, 8 NR

## AD780AN
designator U?
2.5V/3.0V Ultrahigh Precision Bandgap Voltage Reference; Note: Pins 1 and 7 are not connected; Published: 8-Jun-2000; LatestRevisionDate: 29-May-2009; LatestRevisionNote: Component Body Added.; DatasheetVersion: REV. A; PackageReference: N-8_A; Publisher: Altium Limited; PackageDescription: DIP, 8-Pin, Row Spacing 7.62 mm, Pitch 2.54 mm; Code_JEDEC: MO-001-AN; ComponentLink1Description: Manufacturer Link; ComponentLink1URL: http://www.analog.com/en/prod/0,,769_838_AD780%2C00.html; ComponentLink2Description: Datasheet; ComponentLink2URL: http://www.analog.com/UploadedFiles/Data_Sheets/87683462AD780_e.pdf
footprint N-8_A (DIP, 8-Leads, Row Spacing 7.62mm, Pitch 2.54mm, Body 9.88x6.61mm)
3D model N-8A (DIP, 8-Pin, Row Spacing 7.62 mm, Pitch 2.54 mm)
simulation model AD780A (SUBCKT)
pins: 1 NC, 2 IN (power), 3 TEMP, 4 GND (power), 5 TRIM, 6 OUT (power), 7 NC, 8 SEL (in)

## AD780AR
designator U?
2.5V/3.0V Ultrahigh Precision Bandgap Voltage Reference; Note: Pins 1 and 7 are not connected; Published: 8-Jun-2000; LatestRevisionDate: 13-Apr-2006; LatestRevisionNote: IPC-7351 Footprint Added.; DatasheetVersion: REV. A; PackageVersion: revC; PackageReference: R-8C; Publisher: Altium Limited; PackageDescription: 8-Pin Small Outline Integrated Circuit 1.27 mm Pitch; Code_IPC: SOIC127P600-8; ComponentLink1Description: Manufacturer Link; ComponentLink1URL: http://www.analog.com/en/prod/0,,769_838_AD780%2C00.html; ComponentLink2Description: Datasheet; ComponentLink2URL: http://www.analog.com/UploadedFiles/Data_Sheets/87683462AD780_e.pdf
footprint R-8C_N (SOIC, 8-Leads, Body 4.9x3.9mm, Pitch 1.27mm, IPC Medium Density)
footprint R-8C_L (SOIC, 8-Leads, Body 4.9x3.9mm, Pitch 1.27mm, IPC High Density)
footprint R-8C_M (SOIC, 8-Leads, Body 4.9x3.9mm, Pitch 1.27mm, IPC Low Density)
3D model SO-8C (8-Pin Small Outline Integrated Circuit 1.27 mm Pitch)
simulation model AD780A (SUBCKT)
pins: 1 NC, 2 IN (power), 3 TEMP, 4 GND (power), 5 TRIM, 6 OUT (power), 7 NC, 8 SEL (in)

## AD780BN
designator U?
2.5V/3.0V Ultrahigh Precision Bandgap Voltage Reference; Note: Pins 1 and 7 are not connected; Published: 8-Jun-2000; LatestRevisionDate: 29-May-2009; LatestRevisionNote: Component Body Added.; DatasheetVersion: REV. A; PackageReference: N-8_A; Publisher: Altium Limited; PackageDescription: DIP, 8-Pin, Row Spacing 7.62 mm, Pitch 2.54 mm; Code_JEDEC: MO-001-AN; ComponentLink1Description: Manufacturer Link; ComponentLink1URL: http://www.analog.com/en/prod/0,,769_838_AD780%2C00.html; ComponentLink2Description: Datasheet; ComponentLink2URL: http://www.analog.com/UploadedFiles/Data_Sheets/87683462AD780_e.pdf
footprint N-8_A (DIP, 8-Leads, Row Spacing 7.62mm, Pitch 2.54mm, Body 9.88x6.61mm)
3D model N-8A (DIP, 8-Pin, Row Spacing 7.62 mm, Pitch 2.54 mm)
simulation model AD780B (SUBCKT)
pins: 1 NC, 2 IN (power), 3 TEMP, 4 GND (power), 5 TRIM, 6 OUT (power), 7 NC, 8 SEL (in)

## AD780BR
designator U?
2.5V/3.0V Ultrahigh Precision Bandgap Voltage Reference; Note: Pins 1 and 7 are not connected; Published: 8-Jun-2000; LatestRevisionDate: 13-Apr-2006; LatestRevisionNote: IPC-7351 Footprint Added.; DatasheetVersion: REV. A; PackageVersion: revC; PackageReference: R-8C; Publisher: Altium Limited; PackageDescription: 8-Pin Small Outline Integrated Circuit 1.27 mm Pitch; Code_IPC: SOIC127P600-8; ComponentLink1Description: Manufacturer Link; ComponentLink1URL: http://www.analog.com/en/prod/0,,769_838_AD780%2C00.html; ComponentLink2Description: Datasheet; ComponentLink2URL: http://www.analog.com/UploadedFiles/Data_Sheets/87683462AD780_e.pdf
footprint R-8C_N (SOIC, 8-Leads, Body 4.9x3.9mm, Pitch 1.27mm, IPC Medium Density)
footprint R-8C_L (SOIC, 8-Leads, Body 4.9x3.9mm, Pitch 1.27mm, IPC High Density)
footprint R-8C_M (SOIC, 8-Leads, Body 4.9x3.9mm, Pitch 1.27mm, IPC Low Density)
3D model SO-8C (8-Pin Small Outline Integrated Circuit 1.27 mm Pitch)
simulation model AD780B (SUBCKT)
pins: 1 NC, 2 IN (power), 3 TEMP, 4 GND (power), 5 TRIM, 6 OUT (power), 7 NC, 8 SEL (in)

## AD780SQ
designator U?
2.5V/3.0V Ultrahigh Precision Bandgap Voltage Reference; Note: Pins 1 and 7 are not connected; Published: 8-Jun-2000; LatestRevisionDate: 29-May-2009; LatestRevisionNote: Component Body Added.; DatasheetVersion: REV. A; PackageVersion: 1998; PackageReference: Q-8; Publisher: Altium Limited; PackageDescription: DIP, 8-Pin, Row Spacing 7.62 mm, Pitch 2.54 mm; ComponentLink1Description: Manufacturer Link; ComponentLink1URL: http://www.analog.com/en/prod/0,,769_838_AD780%2C00.html; ComponentLink2Description: Datasheet; ComponentLink2URL: http://www.analog.com/UploadedFiles/Data_Sheets/87683462AD780_e.pdf
footprint Q-8 (DIP, 8-Leads, Row Spacing 7.62mm, Pitch 2.54mm, Body 9.91x6.73mm)
3D model Q-8 (DIP, 8-Pin, Row Spacing 7.62 mm, Pitch 2.54 mm)
simulation model AD780S (SUBCKT)
pins: 1 NC, 2 IN (power), 3 TEMP, 4 GND (power), 5 TRIM, 6 OUT (power), 7 NC, 8 SEL (in)

## AD780SQ/883B
designator U?
2.5V/3.0V Ultrahigh Precision Bandgap Voltage Reference; Note: Pins 1 and 7 are not connected; Published: 8-Jun-2000; LatestRevisionDate: 29-May-2009; LatestRevisionNote: Component Body Added.; DatasheetVersion: REV. A; PackageVersion: 1998; PackageReference: Q-8; Publisher: Altium Limited; PackageDescription: DIP, 8-Pin, Row Spacing 7.62 mm, Pitch 2.54 mm; ComponentLink1Description: Manufacturer Link; ComponentLink1URL: http://www.analog.com/en/prod/0,,769_838_AD780%2C00.html; ComponentLink2Description: Datasheet; ComponentLink2URL: http://www.analog.com/UploadedFiles/Data_Sheets/87683462AD780_e.pdf
footprint Q-8 (DIP, 8-Leads, Row Spacing 7.62mm, Pitch 2.54mm, Body 9.91x6.73mm)
3D model Q-8 (DIP, 8-Pin, Row Spacing 7.62 mm, Pitch 2.54 mm)
simulation model AD780S (SUBCKT)
pins: 1 NC, 2 IN (power), 3 TEMP, 4 GND (power), 5 TRIM, 6 OUT (power), 7 NC, 8 SEL (in)

## AD1580ART
designator U?
1.2V Micropower, Precision Shunt Voltage Reference; Note: Pin 3 is not connected or GND; Published: 8-Jun-2000; LatestRevisionDate: 29-May-2009; LatestRevisionNote: IPC-7351 Footprint Added.; DatasheetVersion: REV. 0 1995; PackageVersion: rev0; PackageReference: RT-3; Publisher: Altium Limited; PackageDescription: 3-Pin SOT-23 Package 0.95 mm Pitch, 2.4 mm Lead Span; ComponentLink1Description: Manufacturer Link; ComponentLink1URL: http://www.analog.com/en/prod/0%2C2877%2CAD1580%2C00.html; ComponentLink2Description: Datasheet; ComponentLink2URL: http://www.analog.com/UploadedFiles/Data_Sheets/501400529AD1580_b.pdf
footprint RT-3_N (SOT23, 3-Leads, Body 2.9x1.3mm, Pitch 0.95mm, Lead Span 2.4mm, IPC Medium Density)
footprint RT-3_L (SOT23, 3-Leads, Body 2.9x1.3mm, Pitch 0.95mm, Lead Span 2.4mm, IPC High Density)
footprint RT-3_M (SOT23, 3-Leads, Body 2.9x1.3mm, Pitch 0.95mm, Lead Span 2.4mm, IPC Low Density)
simulation model AD1580 (SUBCKT)
pins: 1 V+ (power), 2 V- (power), 3 NC

## AD1580BRT
designator U?
1.2V Micropower, Precision Shunt Voltage Reference; Note: Pin 3 is not connected or GND; Published: 8-Jun-2000; LatestRevisionDate: 29-May-2009; LatestRevisionNote: IPC-7351 Footprint Added.; DatasheetVersion: REV. 0 1995; PackageVersion: rev0; PackageReference: RT-3; Publisher: Altium Limited; PackageDescription: 3-Pin SOT-23 Package 0.95 mm Pitch, 2.4 mm Lead Span; ComponentLink1Description: Manufacturer Link; ComponentLink1URL: http://www.analog.com/en/prod/0%2C2877%2CAD1580%2C00.html; ComponentLink2Description: Datasheet; ComponentLink2URL: http://www.analog.com/UploadedFiles/Data_Sheets/501400529AD1580_b.pdf
footprint RT-3_N (SOT23, 3-Leads, Body 2.9x1.3mm, Pitch 0.95mm, Lead Span 2.4mm, IPC Medium Density)
footprint RT-3_L (SOT23, 3-Leads, Body 2.9x1.3mm, Pitch 0.95mm, Lead Span 2.4mm, IPC High Density)
footprint RT-3_M (SOT23, 3-Leads, Body 2.9x1.3mm, Pitch 0.95mm, Lead Span 2.4mm, IPC Low Density)
simulation model AD1580 (SUBCKT)
pins: 1 V+ (power), 2 V- (power), 3 NC

## AD1582ART
designator U?
2.5V Micropower, Precision Series Mode Voltage Reference; Published: 8-Jun-2000; LatestRevisionDate: 29-May-2009; LatestRevisionNote: IPC-7351 Footprint Added.; DatasheetVersion: REV. 0 1997; PackageVersion: rev0; PackageReference: RT-3; Publisher: Altium Limited; PackageDescription: 3-Pin SOT-23 Package 0.95 mm Pitch, 2.4 mm Lead Span; ComponentLink1Description: Manufacturer Link; ComponentLink1URL: http://www.analog.com/en/prod/0,,769_838_AD1582%2C00.html; ComponentLink2Description: Datasheet; ComponentLink2URL: http://www.analog.com/UploadedFiles/Data_Sheets/170285571AD1582_3_4_5_d.pdf
footprint RT-3_N (SOT23, 3-Leads, Body 2.9x1.3mm, Pitch 0.95mm, Lead Span 2.4mm, IPC Medium Density)
footprint RT-3_L (SOT23, 3-Leads, Body 2.9x1.3mm, Pitch 0.95mm, Lead Span 2.4mm, IPC High Density)
footprint RT-3_M (SOT23, 3-Leads, Body 2.9x1.3mm, Pitch 0.95mm, Lead Span 2.4mm, IPC Low Density)
pins: 1 OUT, 2 GND (power), 3 IN (power)

## AD1582BRT
designator U?
2.5V Micropower, Precision Series Mode Voltage Reference; Published: 8-Jun-2000; LatestRevisionDate: 29-May-2009; LatestRevisionNote: IPC-7351 Footprint Added.; DatasheetVersion: REV. 0 1997; PackageVersion: rev0; PackageReference: RT-3; Publisher: Altium Limited; PackageDescription: 3-Pin SOT-23 Package 0.95 mm Pitch, 2.4 mm Lead Span; ComponentLink1Description: Manufacturer Link; ComponentLink1URL: http://www.analog.com/en/prod/0,,769_838_AD1582%2C00.html; ComponentLink2Description: Datasheet; ComponentLink2URL: http://www.analog.com/UploadedFiles/Data_Sheets/170285571AD1582_3_4_5_d.pdf
footprint RT-3_N (SOT23, 3-Leads, Body 2.9x1.3mm, Pitch 0.95mm, Lead Span 2.4mm, IPC Medium Density)
footprint RT-3_L (SOT23, 3-Leads, Body 2.9x1.3mm, Pitch 0.95mm, Lead Span 2.4mm, IPC High Density)
footprint RT-3_M (SOT23, 3-Leads, Body 2.9x1.3mm, Pitch 0.95mm, Lead Span 2.4mm, IPC Low Density)
pins: 1 OUT, 2 GND (power), 3 IN (power)

## AD1583ART
designator U?
3.0V Micropower, Precision Series Mode Voltage Reference; Published: 8-Jun-2000; LatestRevisionDate: 29-May-2009; LatestRevisionNote: IPC-7351 Footprint Added.; DatasheetVersion: REV. 0 1997; PackageVersion: rev0; PackageReference: RT-3; Publisher: Altium Limited; PackageDescription: 3-Pin SOT-23 Package 0.95 mm Pitch, 2.4 mm Lead Span; ComponentLink1Description: Manufacturer Link; ComponentLink1URL: http://www.analog.com/en/prod/0,,769_838_AD1582%2C00.html; ComponentLink2Description: Datasheet; ComponentLink2URL: http://www.analog.com/UploadedFiles/Data_Sheets/170285571AD1582_3_4_5_d.pdf
footprint RT-3_N (SOT23, 3-Leads, Body 2.9x1.3mm, Pitch 0.95mm, Lead Span 2.4mm, IPC Medium Density)
footprint RT-3_L (SOT23, 3-Leads, Body 2.9x1.3mm, Pitch 0.95mm, Lead Span 2.4mm, IPC High Density)
footprint RT-3_M (SOT23, 3-Leads, Body 2.9x1.3mm, Pitch 0.95mm, Lead Span 2.4mm, IPC Low Density)
pins: 1 OUT, 2 GND (power), 3 IN (power)

## AD1583BRT
designator U?
3.0V Micropower, Precision Series Mode Voltage Reference; Published: 8-Jun-2000; LatestRevisionDate: 29-May-2009; LatestRevisionNote: IPC-7351 Footprint Added.; DatasheetVersion: REV. 0 1997; PackageVersion: rev0; PackageReference: RT-3; Publisher: Altium Limited; PackageDescription: 3-Pin SOT-23 Package 0.95 mm Pitch, 2.4 mm Lead Span; ComponentLink1Description: Manufacturer Link; ComponentLink1URL: http://www.analog.com/en/prod/0,,769_838_AD1582%2C00.html; ComponentLink2Description: Datasheet; ComponentLink2URL: http://www.analog.com/UploadedFiles/Data_Sheets/170285571AD1582_3_4_5_d.pdf
footprint RT-3_N (SOT23, 3-Leads, Body 2.9x1.3mm, Pitch 0.95mm, Lead Span 2.4mm, IPC Medium Density)
footprint RT-3_L (SOT23, 3-Leads, Body 2.9x1.3mm, Pitch 0.95mm, Lead Span 2.4mm, IPC High Density)
footprint RT-3_M (SOT23, 3-Leads, Body 2.9x1.3mm, Pitch 0.95mm, Lead Span 2.4mm, IPC Low Density)
pins: 1 OUT, 2 GND (power), 3 IN (power)

## AD1584ART
designator U?
4.096V, Micropower, Precision Series Mode Voltage Reference; Published: 8-Jun-2000; LatestRevisionDate: 29-May-2009; LatestRevisionNote: IPC-7351 Footprint Added.; DatasheetVersion: REV. 0 1997; PackageVersion: rev0; PackageReference: RT-3; Publisher: Altium Limited; PackageDescription: 3-Pin SOT-23 Package 0.95 mm Pitch, 2.4 mm Lead Span; ComponentLink1Description: Manufacturer Link; ComponentLink1URL: http://www.analog.com/en/prod/0,,769_838_AD1582%2C00.html; ComponentLink2Description: Datasheet; ComponentLink2URL: http://www.analog.com/UploadedFiles/Data_Sheets/170285571AD1582_3_4_5_d.pdf
footprint RT-3_N (SOT23, 3-Leads, Body 2.9x1.3mm, Pitch 0.95mm, Lead Span 2.4mm, IPC Medium Density)
footprint RT-3_L (SOT23, 3-Leads, Body 2.9x1.3mm, Pitch 0.95mm, Lead Span 2.4mm, IPC High Density)
footprint RT-3_M (SOT23, 3-Leads, Body 2.9x1.3mm, Pitch 0.95mm, Lead Span 2.4mm, IPC Low Density)
pins: 1 OUT, 2 GND (power), 3 IN (power)

## AD1584BRT
designator U?
4.096V, Micropower, Precision Series Mode Voltage Reference; Published: 8-Jun-2000; LatestRevisionDate: 29-May-2009; LatestRevisionNote: IPC-7351 Footprint Added.; DatasheetVersion: REV. 0 1997; PackageVersion: rev0; PackageReference: RT-3; Publisher: Altium Limited; PackageDescription: 3-Pin SOT-23 Package 0.95 mm Pitch, 2.4 mm Lead Span; ComponentLink1Description: Manufacturer Link; ComponentLink1URL: http://www.analog.com/en/prod/0,,769_838_AD1582%2C00.html; ComponentLink2Description: Datasheet; ComponentLink2URL: http://www.analog.com/UploadedFiles/Data_Sheets/170285571AD1582_3_4_5_d.pdf
footprint RT-3_N (SOT23, 3-Leads, Body 2.9x1.3mm, Pitch 0.95mm, Lead Span 2.4mm, IPC Medium Density)
footprint RT-3_L (SOT23, 3-Leads, Body 2.9x1.3mm, Pitch 0.95mm, Lead Span 2.4mm, IPC High Density)
footprint RT-3_M (SOT23, 3-Leads, Body 2.9x1.3mm, Pitch 0.95mm, Lead Span 2.4mm, IPC Low Density)
pins: 1 OUT, 2 GND (power), 3 IN (power)

## AD1585ART
designator U?
5V, Micropower, Precision, Series Mode, Low Dropout Voltage Reference; Published: 8-Jun-2000; LatestRevisionDate: 29-May-2009; LatestRevisionNote: IPC-7351 Footprint Added.; DatasheetVersion: REV. 0 1997; PackageVersion: rev0; PackageReference: RT-3; Publisher: Altium Limited; PackageDescription: 3-Pin SOT-23 Package 0.95 mm Pitch, 2.4 mm Lead Span; ComponentLink1Description: Manufacturer Link; ComponentLink1URL: http://www.analog.com/en/prod/0,,769_838_AD1582%2C00.html; ComponentLink2Description: Datasheet; ComponentLink2URL: http://www.analog.com/UploadedFiles/Data_Sheets/170285571AD1582_3_4_5_d.pdf
footprint RT-3_N (SOT23, 3-Leads, Body 2.9x1.3mm, Pitch 0.95mm, Lead Span 2.4mm, IPC Medium Density)
footprint RT-3_L (SOT23, 3-Leads, Body 2.9x1.3mm, Pitch 0.95mm, Lead Span 2.4mm, IPC High Density)
footprint RT-3_M (SOT23, 3-Leads, Body 2.9x1.3mm, Pitch 0.95mm, Lead Span 2.4mm, IPC Low Density)
pins: 1 OUT, 2 GND (power), 3 IN (power)

## AD1585BRT
designator U?
5V, Micropower, Precision, Series Mode, Low Dropout Voltage Reference; Published: 8-Jun-2000; LatestRevisionDate: 29-May-2009; LatestRevisionNote: IPC-7351 Footprint Added.; DatasheetVersion: REV. 0 1997; PackageVersion: rev0; PackageReference: RT-3; Publisher: Altium Limited; PackageDescription: 3-Pin SOT-23 Package 0.95 mm Pitch, 2.4 mm Lead Span; ComponentLink1Description: Manufacturer Link; ComponentLink1URL: http://www.analog.com/en/prod/0,,769_838_AD1582%2C00.html; ComponentLink2Description: Datasheet; ComponentLink2URL: http://www.analog.com/UploadedFiles/Data_Sheets/170285571AD1582_3_4_5_d.pdf
footprint RT-3_N (SOT23, 3-Leads, Body 2.9x1.3mm, Pitch 0.95mm, Lead Span 2.4mm, IPC Medium Density)
footprint RT-3_L (SOT23, 3-Leads, Body 2.9x1.3mm, Pitch 0.95mm, Lead Span 2.4mm, IPC High Density)
footprint RT-3_M (SOT23, 3-Leads, Body 2.9x1.3mm, Pitch 0.95mm, Lead Span 2.4mm, IPC Low Density)
pins: 1 OUT, 2 GND (power), 3 IN (power)

## AD2710KN
designator U?
+/- 10.000 Volt Ultra-High-Precision Reference Series; Note: Pins 1, 2, 3, 4, 5, 6, 8 and 9 are not connected; Published: 8-Jun-2000; LatestRevisionDate: 29-May-2009; LatestRevisionNote: Component Body Added.; DatasheetVersion: REV. A; PackageVersion: revA; PackageReference: DH-14D; Publisher: Altium Limited; PackageDescription: DIP, 14-Pin, Row Spacing 7.62 mm, Pitch 2.54 mm; ComponentLink1Description: Manufacturer Link; ComponentLink1URL: http://www.analog.com/; ComponentLink2Description: Datasheet; ComponentLink2URL: http://www.analog.com/UploadedFiles/Obsolete_Data_Sheets/2323338AD2710.pdf
footprint DH-14D (DIP, 14-Leads, Row Spacing 7.62mm, Pitch 2.54mm, Body 20.07x6.6mm)
3D model DH-14D (DIP, 14-Pin, Row Spacing 7.62 mm, Pitch 2.54 mm)
pins: 1 NC, 2 NC, 3 NC, 4 NC, 5 NC, 6 NC, 7 GND (power), 8 NC, 9 NC, 10 TP, 11 V+ (power), 12 FADJ, 13 +10 OUT (power), 14 FADJ

## AD2710LN
designator U?
+/- 10.000 Volt Ultra-High-Precision Reference Series; Note: Pins 1, 2, 3, 4, 5, 6, 8 and 9 are not connected; Published: 8-Jun-2000; LatestRevisionDate: 29-May-2009; LatestRevisionNote: Component Body Added.; DatasheetVersion: REV. A; PackageVersion: revA; PackageReference: DH-14D; Publisher: Altium Limited; PackageDescription: DIP, 14-Pin, Row Spacing 7.62 mm, Pitch 2.54 mm; ComponentLink1Description: Manufacturer Link; ComponentLink1URL: http://www.analog.com/; ComponentLink2Description: Datasheet; ComponentLink2URL: http://www.analog.com/UploadedFiles/Obsolete_Data_Sheets/2323338AD2710.pdf
footprint DH-14D (DIP, 14-Leads, Row Spacing 7.62mm, Pitch 2.54mm, Body 20.07x6.6mm)
3D model DH-14D (DIP, 14-Pin, Row Spacing 7.62 mm, Pitch 2.54 mm)
pins: 1 NC, 2 NC, 3 NC, 4 NC, 5 NC, 6 NC, 7 GND (power), 8 NC, 9 NC, 10 TP, 11 V+ (power), 12 FADJ, 13 +10 OUT (power), 14 FADJ

## AD2712KN
designator U?
+/- 10.000 Volt Ultra-High-Precision Reference Series; Note: Pins 5, 6, 8 and 9 are not connected; Published: 8-Jun-2000; LatestRevisionDate: 29-May-2009; LatestRevisionNote: Component Body Added.; DatasheetVersion: REV. A; PackageVersion: revA; PackageReference: DH-14D; Publisher: Altium Limited; PackageDescription: DIP, 14-Pin, Row Spacing 7.62 mm, Pitch 2.54 mm; ComponentLink1Description: Manufacturer Link; ComponentLink1URL: http://www.analog.com/; ComponentLink2Description: Datasheet; ComponentLink2URL: http://www.analog.com/UploadedFiles/Obsolete_Data_Sheets/2323338AD2710.pdf
footprint DH-14D (DIP, 14-Leads, Row Spacing 7.62mm, Pitch 2.54mm, Body 20.07x6.6mm)
3D model DH-14D (DIP, 14-Pin, Row Spacing 7.62 mm, Pitch 2.54 mm)
pins: 1 FADJ-, 2 -10 OUT, 3 FADJ+, 4 V-, 5 NC, 6 NC, 7 GND (power), 8 NC, 9 NC, 10 TP, 11 V+ (power), 12 FADJ, 13 +10 OUT, 14 FADJ

## AD2712LN
designator U?
+/- 10.000 Volt Ultra-High-Precision Reference Series; Note: Pins 5, 6, 8 and 9 are not connected; Published: 8-Jun-2000; LatestRevisionDate: 29-May-2009; LatestRevisionNote: Component Body Added.; DatasheetVersion: REV. A; PackageVersion: revA; PackageReference: DH-14D; Publisher: Altium Limited; PackageDescription: DIP, 14-Pin, Row Spacing 7.62 mm, Pitch 2.54 mm; ComponentLink1Description: Manufacturer Link; ComponentLink1URL: http://www.analog.com/; ComponentLink2Description: Datasheet; ComponentLink2URL: http://www.analog.com/UploadedFiles/Obsolete_Data_Sheets/2323338AD2710.pdf
footprint DH-14D (DIP, 14-Leads, Row Spacing 7.62mm, Pitch 2.54mm, Body 20.07x6.6mm)
3D model DH-14D (DIP, 14-Pin, Row Spacing 7.62 mm, Pitch 2.54 mm)
pins: 1 FADJ-, 2 -10 OUT, 3 FADJ+, 4 V-, 5 NC, 6 NC, 7 GND (power), 8 NC, 9 NC, 10 TP, 11 V+ (power), 12 FADJ, 13 +10 OUT, 14 FADJ

## ADR290ER
designator U?
Low-Noise Micropower Precision Voltage Reference; Note: Pins 1, 3, 5, 7 and 8 are not connected; Published: 8-Jun-2000; LatestRevisionDate: 13-Apr-2006; LatestRevisionNote: IPC-7351 Footprint Added.; DatasheetVersion: REV. 0 1997; PackageVersion: 2005; PackageReference: R-8; Publisher: Altium Limited; PackageDescription: 8-Pin Narrow Body Small Outline Integrated Circuit 1.27 mm Pitch; Code_JEDEC: MS-012-AA; Code_IPC: SOIC127P600-8; ComponentLink1Description: Manufacturer Link; ComponentLink1URL: http://www.analog.com/; ComponentLink2Description: Datasheet; ComponentLink2URL: http://www.analog.com/UploadedFiles/Obsolete_Data_Sheets/687927814ADR290.pdf
footprint R-8_N (SOIC, 8-Leads, Body 4.9x3.9mm, Pitch 1.27mm, IPC Medium Density)
footprint R-8_L (SOIC, 8-Leads, Body 4.9x3.9mm, Pitch 1.27mm, IPC High Density)
footprint R-8_M (SOIC, 8-Leads, Body 4.9x3.9mm, Pitch 1.27mm, IPC Low Density)
3D model SO-8 (8-Pin Narrow Body Small Outline Integrated Circuit 1.27 mm Pitch)
pins: 1 NC, 2 IN (power), 3 NC, 4 GND (power), 5 NC, 6 OUT (power), 7 NC, 8 NC